# Altium integrated library Analog Devices Operational Amplifiers.IntLib: 2102 symbols (part 25 of 70)
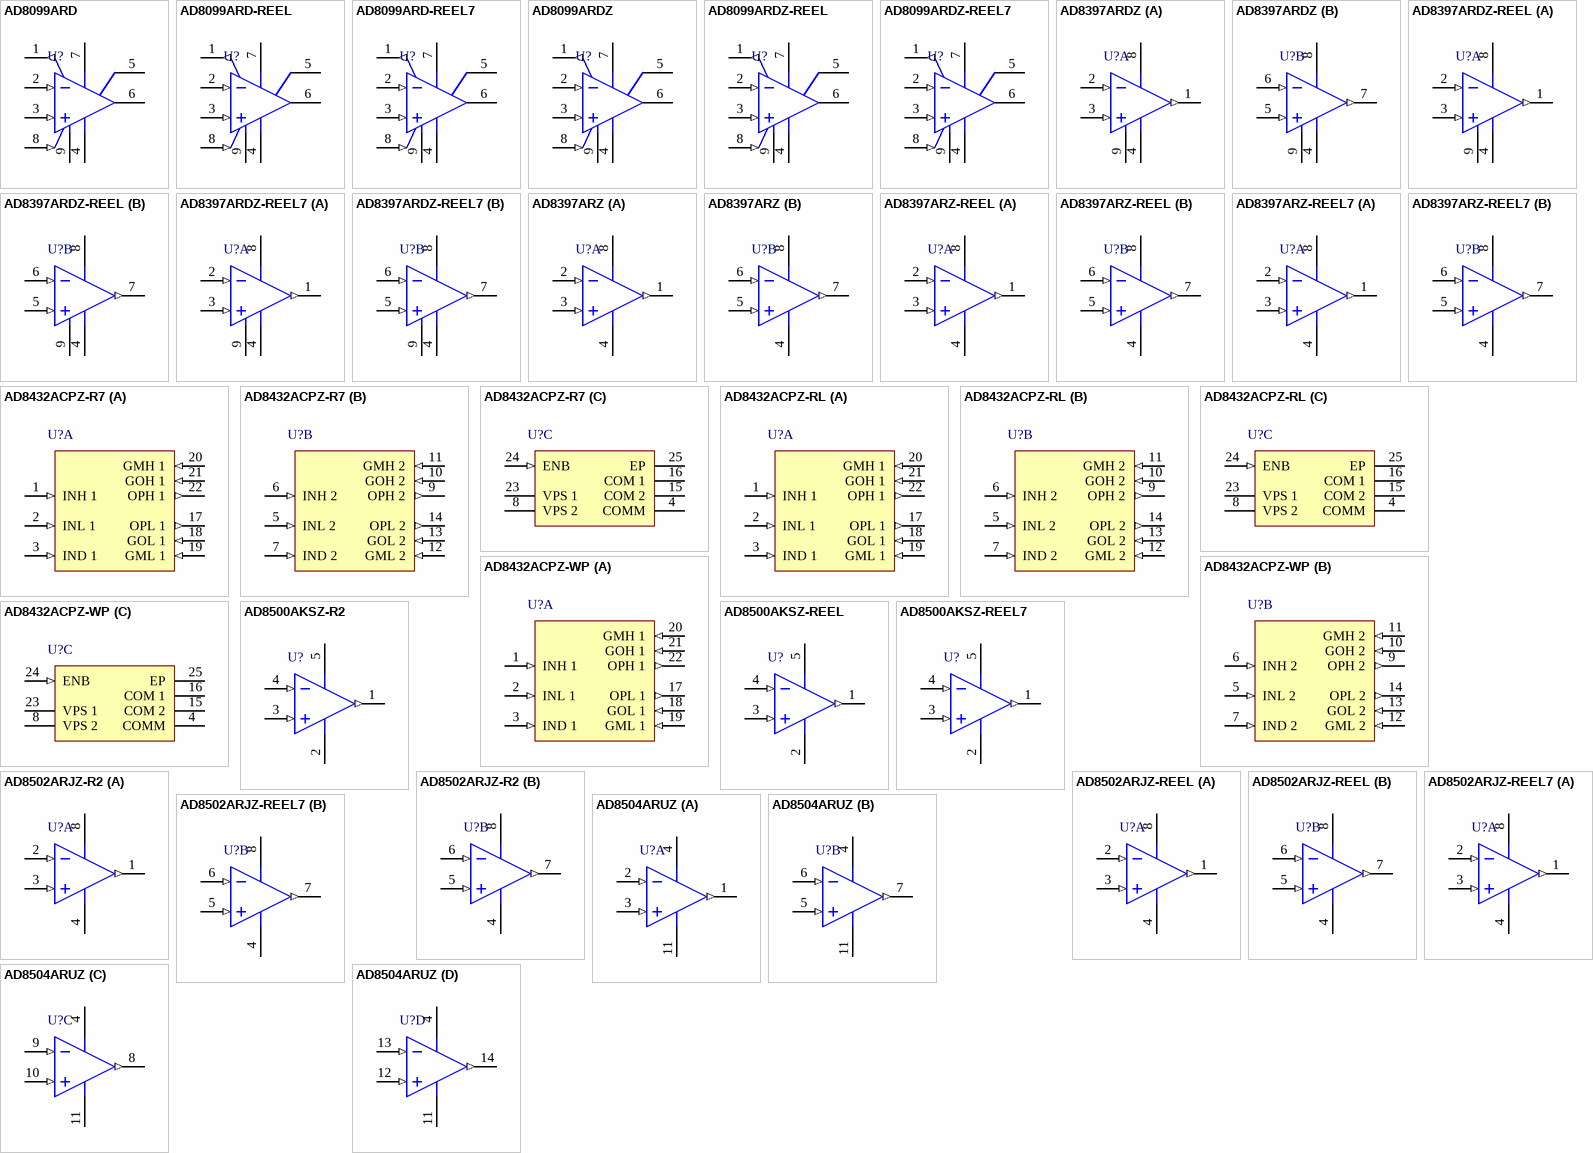
[diagram p138: symbols AD8099ARD to AD8504ARUZ]

## AD8099ARD-REEL7
designator U?
Single Channel Ultra Low Noise Operational Amplifier, 500 MHz BW, 1.35 KV/us SR, Industrial, 8-pin SOIC (RD-8-1), Reel; Generic Part Number: AD8099; Manufacturer: Analog Devices; PartNumber: AD8099ARD-REEL7; Amplifiers Per Package: 1; Input Bias Current: 3uA; Input Offset Voltage: 100uV; Iq/Amp: 16mA; Small Signal Bandwidth: 500MHz; V Span Max: 12V; V Span Min: 5V; DatasheetVersion: Rev. B; PackageVersion: 060506-A; PackageReference: RD-8-1; PackageDescription: 8-Pin Standard Small Outline Package, Body 4.9 x 3.9 mm, Pitch 1.27 mm; Supplier 1: Digi-Key; Supplier Part Number 1: AD8099ARD-REEL7-ND; Slew Rate: 1.35KV/us; Mounting Technology: Surface Mount; Code_JEDEC: MS-012-AA; ComponentLink1Description: Manufacturer URL; ComponentLink1URL: http://www.analog.com/en/index.html; ComponentLink2Description: Datasheet; ComponentLink2URL: http://www.analog.com/static/imported-files/data_sheets/AD8099.pdf; ComponentLink3Description: Package Specification; ComponentLink3URL: http://www.analog.com/static/imported-files/packages/PKG_PDF/SOIC_ED(RD)/RD_8_1.pdf
footprint ADI-RD-8-1_N (SOIC, 8-Leads, Body 4.9x3.9mm, Pitch 1.27mm, Thermal Pad 2.29x2.29mm, IPC Medium Density)
footprint ADI-RD-8-1_L (SOIC, 8-Leads, Body 4.9x3.9mm, Pitch 1.27mm, Thermal Pad 2.29x2.29mm, IPC High Density)
footprint ADI-RD-8-1_M (SOIC, 8-Leads, Body 4.9x3.9mm, Pitch 1.27mm, Thermal Pad 2.29x2.29mm, IPC Low Density)
pins: 1 FEEDBACK (out), 2 -IN (in), 3 +IN (in), 4 -VS (power), 5 CC, 6 VOUT (hiz), 7 +VS (power), 8 ~{DISABLE} (in), 9 EP

## AD8099ARDZ
designator U?
Single Channel Ultra Low Noise Operational Amplifier, 500 MHz BW, 1.35 KV/us SR, Industrial, 8-pin SOIC (RD-8-1), Tube; Generic Part Number: AD8099; Manufacturer: Analog Devices; PartNumber: AD8099ARDZ; Amplifiers Per Package: 1; Input Bias Current: 3uA; Input Offset Voltage: 100uV; Iq/Amp: 16mA; Small Signal Bandwidth: 500MHz; V Span Max: 12V; V Span Min: 5V; DatasheetVersion: Rev. B; PackageVersion: 060506-A; PackageReference: RD-8-1; PackageDescription: 8-Pin Standard Small Outline Package, Body 4.9 x 3.9 mm, Pitch 1.27 mm; Supplier 1: Digi-Key; Supplier Part Number 1: AD8099ARDZ-ND; Supplier 2: Farnell; Supplier Part Number 2: 8397848; Supplier 3: Newark; Supplier Part Number 3: 19M0932; Slew Rate: 1.35KV/us; Mounting Technology: Surface Mount; Code_JEDEC: MS-012-AA; ComponentLink1Description: Manufacturer URL; ComponentLink1URL: http://www.analog.com/en/index.html; ComponentLink2Description: Datasheet; ComponentLink2URL: http://www.analog.com/static/imported-files/data_sheets/AD8099.pdf; ComponentLink3Description: Package Specification; ComponentLink3URL: http://www.analog.com/static/imported-files/packages/PKG_PDF/SOIC_ED(RD)/RD_8_1.pdf
footprint ADI-RD-8-1_N (SOIC, 8-Leads, Body 4.9x3.9mm, Pitch 1.27mm, Thermal Pad 2.29x2.29mm, IPC Medium Density)
footprint ADI-RD-8-1_L (SOIC, 8-Leads, Body 4.9x3.9mm, Pitch 1.27mm, Thermal Pad 2.29x2.29mm, IPC High Density)
footprint ADI-RD-8-1_M (SOIC, 8-Leads, Body 4.9x3.9mm, Pitch 1.27mm, Thermal Pad 2.29x2.29mm, IPC Low Density)
pins: 1 FEEDBACK (out), 2 -IN (in), 3 +IN (in), 4 -VS (power), 5 CC, 6 VOUT (hiz), 7 +VS (power), 8 ~{DISABLE} (in), 9 EP

## AD8099ARDZ-REEL
designator U?
Single Channel Ultra Low Noise Operational Amplifier, 500 MHz BW, 1.35 KV/us SR, Industrial, 8-pin SOIC (RD-8-1), Reel; Generic Part Number: AD8099; Manufacturer: Analog Devices; PartNumber: AD8099ARDZ-REEL; Amplifiers Per Package: 1; Input Bias Current: 3uA; Input Offset Voltage: 100uV; Iq/Amp: 16mA; Small Signal Bandwidth: 500MHz; V Span Max: 12V; V Span Min: 5V; DatasheetVersion: Rev. B; PackageVersion: 060506-A; PackageReference: RD-8-1; PackageDescription: 8-Pin Standard Small Outline Package, Body 4.9 x 3.9 mm, Pitch 1.27 mm; Supplier 1: Digi-Key; Supplier Part Number 1: AD8099ARDZ-REEL-ND; Supplier 2: Newark; Supplier Part Number 2: 59K6363; Slew Rate: 1.35KV/us; Mounting Technology: Surface Mount; Code_JEDEC: MS-012-AA; ComponentLink1Description: Manufacturer URL; ComponentLink1URL: http://www.analog.com/en/index.html; ComponentLink2Description: Datasheet; ComponentLink2URL: http://www.analog.com/static/imported-files/data_sheets/AD8099.pdf; ComponentLink3Description: Package Specification; ComponentLink3URL: http://www.analog.com/static/imported-files/packages/PKG_PDF/SOIC_ED(RD)/RD_8_1.pdf
footprint ADI-RD-8-1_N (SOIC, 8-Leads, Body 4.9x3.9mm, Pitch 1.27mm, Thermal Pad 2.29x2.29mm, IPC Medium Density)
footprint ADI-RD-8-1_L (SOIC, 8-Leads, Body 4.9x3.9mm, Pitch 1.27mm, Thermal Pad 2.29x2.29mm, IPC High Density)
footprint ADI-RD-8-1_M (SOIC, 8-Leads, Body 4.9x3.9mm, Pitch 1.27mm, Thermal Pad 2.29x2.29mm, IPC Low Density)
pins: 1 FEEDBACK (out), 2 -IN (in), 3 +IN (in), 4 -VS (power), 5 CC, 6 VOUT (hiz), 7 +VS (power), 8 ~{DISABLE} (in), 9 EP

## AD8099ARDZ-REEL7
designator U?
Single Channel Ultra Low Noise Operational Amplifier, 500 MHz BW, 1.35 KV/us SR, Industrial, 8-pin SOIC (RD-8-1), Reel; Generic Part Number: AD8099; Manufacturer: Analog Devices; PartNumber: AD8099ARDZ-REEL7; Amplifiers Per Package: 1; Input Bias Current: 3uA; Input Offset Voltage: 100uV; Iq/Amp: 16mA; Small Signal Bandwidth: 500MHz; V Span Max: 12V; V Span Min: 5V; DatasheetVersion: Rev. B; PackageVersion: 060506-A; PackageReference: RD-8-1; PackageDescription: 8-Pin Standard Small Outline Package, Body 4.9 x 3.9 mm, Pitch 1.27 mm; Supplier 1: Digi-Key; Supplier Part Number 1: AD8099ARDZ-REEL7TR-ND; Supplier 2: Digi-Key; Supplier Part Number 2: AD8099ARDZ-REEL7CT-ND; Supplier 3: Digi-Key; Supplier Part Number 3: AD8099ARDZ-REEL7DKR-ND; Supplier 4: Newark; Supplier Part Number 4: 59K6364; Slew Rate: 1.35KV/us; Mounting Technology: Surface Mount; Code_JEDEC: MS-012-AA; ComponentLink1Description: Manufacturer URL; ComponentLink1URL: http://www.analog.com/en/index.html; ComponentLink2Description: Datasheet; ComponentLink2URL: http://www.analog.com/static/imported-files/data_sheets/AD8099.pdf; ComponentLink3Description: Package Specification; ComponentLink3URL: http://www.analog.com/static/imported-files/packages/PKG_PDF/SOIC_ED(RD)/RD_8_1.pdf
footprint ADI-RD-8-1_N (SOIC, 8-Leads, Body 4.9x3.9mm, Pitch 1.27mm, Thermal Pad 2.29x2.29mm, IPC Medium Density)
footprint ADI-RD-8-1_L (SOIC, 8-Leads, Body 4.9x3.9mm, Pitch 1.27mm, Thermal Pad 2.29x2.29mm, IPC High Density)
footprint ADI-RD-8-1_M (SOIC, 8-Leads, Body 4.9x3.9mm, Pitch 1.27mm, Thermal Pad 2.29x2.29mm, IPC Low Density)
pins: 1 FEEDBACK (out), 2 -IN (in), 3 +IN (in), 4 -VS (power), 5 CC, 6 VOUT (hiz), 7 +VS (power), 8 ~{DISABLE} (in), 9 EP

## AD8397ARDZ
designator U?
Double Channel Low Noise Operational Amplifier, 69 MHz BW, 53 V/us SR, Industrial, 8-pin SOIC (RD-8-2), Tube; Generic Part Number: AD8397; Manufacturer: Analog Devices; PartNumber: AD8397ARDZ; Amplifiers Per Package: 2; Input Bias Current: 200nA; Input Offset Voltage: 1mV; Iq/Amp: 15mA; Slew Rate: 53V/us; Small Signal Bandwidth: 69MHz; V Span Max: 24V; V Span Min: 3V; DatasheetVersion: Rev. A; PackageReference: RD-8-2; PackageDescription: 8-Pin Standard Small Outline Package, Body 4.9 x 3.9 mm, Pitch 1.27 mm; Supplier 1: Digi-Key; Supplier Part Number 1: AD8397ARDZ-ND; Supplier 2: Farnell; Supplier Part Number 2: 1078283; Supplier 3: Newark; Supplier Part Number 3: 59K6702; Mounting Technology: Surface Mount; Code_JEDEC: MS-012-AA; ComponentLink1Description: Manufacturer URL; ComponentLink1URL: http://www.analog.com/en/index.html; ComponentLink2Description: Datasheet; ComponentLink2URL: http://www.analog.com/static/imported-files/data_sheets/AD8397.pdf; ComponentLink3Description: Package Specification; ComponentLink3URL: http://www.analog.com/static/imported-files/packages/62062404671038RD_8_2.pdf
footprint ADI-RD-8-2_N (SOIC, 8-Leads, Body 4.9x3.9mm, Pitch 1.27mm, Thermal Pad 3.098x2.41mm, IPC Medium Density)
footprint ADI-RD-8-2_L (SOIC, 8-Leads, Body 4.9x3.9mm, Pitch 1.27mm, Thermal Pad 3.098x2.41mm, IPC High Density)
footprint ADI-RD-8-2_M (SOIC, 8-Leads, Body 4.9x3.9mm, Pitch 1.27mm, Thermal Pad 3.098x2.41mm, IPC Low Density)
pins on every part: 4 -VS (power), 8 +VS (power), 9 EP
part A pins: 1 OUT 1 (out), 2 -IN 1 (in), 3 +IN 1 (in)
part B pins: 5 +IN 2 (in), 6 -IN 2 (in), 7 OUT 2 (out)

## AD8397ARDZ-REEL
designator U?
Double Channel Low Noise Operational Amplifier, 69 MHz BW, 53 V/us SR, Industrial, 8-pin SOIC (RD-8-2), Reel; Generic Part Number: AD8397; Manufacturer: Analog Devices; PartNumber: AD8397ARDZ-REEL; Amplifiers Per Package: 2; Input Bias Current: 200nA; Input Offset Voltage: 1mV; Iq/Amp: 15mA; Slew Rate: 53V/us; Small Signal Bandwidth: 69MHz; V Span Max: 24V; V Span Min: 3V; DatasheetVersion: Rev. A; PackageReference: RD-8-2; PackageDescription: 8-Pin Standard Small Outline Package, Body 4.9 x 3.9 mm, Pitch 1.27 mm; Supplier 1: Digi-Key; Supplier Part Number 1: AD8397ARDZ-REEL-ND; Supplier 2: Newark; Supplier Part Number 2: 59K6703; Mounting Technology: Surface Mount; Code_JEDEC: MS-012-AA; ComponentLink1Description: Manufacturer URL; ComponentLink1URL: http://www.analog.com/en/index.html; ComponentLink2Description: Datasheet; ComponentLink2URL: http://www.analog.com/static/imported-files/data_sheets/AD8397.pdf; ComponentLink3Description: Package Specification; ComponentLink3URL: http://www.analog.com/static/imported-files/packages/62062404671038RD_8_2.pdf
footprint ADI-RD-8-2_N (SOIC, 8-Leads, Body 4.9x3.9mm, Pitch 1.27mm, Thermal Pad 3.098x2.41mm, IPC Medium Density)
footprint ADI-RD-8-2_L (SOIC, 8-Leads, Body 4.9x3.9mm, Pitch 1.27mm, Thermal Pad 3.098x2.41mm, IPC High Density)
footprint ADI-RD-8-2_M (SOIC, 8-Leads, Body 4.9x3.9mm, Pitch 1.27mm, Thermal Pad 3.098x2.41mm, IPC Low Density)
pins on every part: 4 -VS (power), 8 +VS (power), 9 EP
part A pins: 1 OUT 1 (out), 2 -IN 1 (in), 3 +IN 1 (in)
part B pins: 5 +IN 2 (in), 6 -IN 2 (in), 7 OUT 2 (out)

## AD8397ARDZ-REEL7
designator U?
Double Channel Low Noise Operational Amplifier, 69 MHz BW, 53 V/us SR, Industrial, 8-pin SOIC (RD-8-2), Reel; Generic Part Number: AD8397; Manufacturer: Analog Devices; PartNumber: AD8397ARDZ-REEL7; Amplifiers Per Package: 2; Input Bias Current: 200nA; Input Offset Voltage: 1mV; Iq/Amp: 15mA; Slew Rate: 53V/us; Small Signal Bandwidth: 69MHz; V Span Max: 24V; V Span Min: 3V; DatasheetVersion: Rev. A; PackageReference: RD-8-2; PackageDescription: 8-Pin Standard Small Outline Package, Body 4.9 x 3.9 mm, Pitch 1.27 mm; Supplier 1: Digi-Key; Supplier Part Number 1: AD8397ARDZ-REEL7TR-ND; Supplier 2: Digi-Key; Supplier Part Number 2: AD8397ARDZ-REEL7CT-ND; Supplier 3: Digi-Key; Supplier Part Number 3: AD8397ARDZ-REEL7DKR-ND; Mounting Technology: Surface Mount; Code_JEDEC: MS-012-AA; ComponentLink1Description: Manufacturer URL; ComponentLink1URL: http://www.analog.com/en/index.html; ComponentLink2Description: Datasheet; ComponentLink2URL: http://www.analog.com/static/imported-files/data_sheets/AD8397.pdf; ComponentLink3Description: Package Specification; ComponentLink3URL: http://www.analog.com/static/imported-files/packages/62062404671038RD_8_2.pdf
footprint ADI-RD-8-2_N (SOIC, 8-Leads, Body 4.9x3.9mm, Pitch 1.27mm, Thermal Pad 3.098x2.41mm, IPC Medium Density)
footprint ADI-RD-8-2_L (SOIC, 8-Leads, Body 4.9x3.9mm, Pitch 1.27mm, Thermal Pad 3.098x2.41mm, IPC High Density)
footprint ADI-RD-8-2_M (SOIC, 8-Leads, Body 4.9x3.9mm, Pitch 1.27mm, Thermal Pad 3.098x2.41mm, IPC Low Density)
pins on every part: 4 -VS (power), 8 +VS (power), 9 EP
part A pins: 1 OUT 1 (out), 2 -IN 1 (in), 3 +IN 1 (in)
part B pins: 5 +IN 2 (in), 6 -IN 2 (in), 7 OUT 2 (out)

## AD8397ARZ
designator U?
Double Channel Low Noise Operational Amplifier, 69 MHz BW, 53 V/us SR, Industrial, 8-pin SOIC (R-8), Tube; Generic Part Number: AD8397; Manufacturer: Analog Devices; PartNumber: AD8397ARZ; Amplifiers Per Package: 2; Input Bias Current: 200nA; Input Offset Voltage: 1mV; Iq/Amp: 15mA; Slew Rate: 53V/us; Small Signal Bandwidth: 69MHz; V Span Max: 24V; V Span Min: 3V; DatasheetVersion: Rev. A; PackageVersion: 060506-A; PackageReference: R-8; PackageDescription: 8-Pin Standard Small Outline Package, Body 3.9 x 4.9 mm, Pitch 1.27 mm; Supplier 1: Digi-Key; Supplier Part Number 1: AD8397ARZ-ND; Supplier 2: Farnell; Supplier Part Number 2: 1078284; Supplier 3: Newark; Supplier Part Number 3: 19M1201; Mounting Technology: Surface Mount; Code_JEDEC: MS-012-AA; ComponentLink1Description: Manufacturer URL; ComponentLink1URL: http://www.analog.com/en/index.html; ComponentLink2Description: Datasheet; ComponentLink2URL: http://www.analog.com/static/imported-files/data_sheets/AD8397.pdf; ComponentLink3Description: Package Specification; ComponentLink3URL: http://www.analog.com/static/imported-files/packages/PKG_PDF/SOIC_Narrow%20(R)/R_8.pdf
footprint ADI-R-8_N (SOIC, 8-Leads, Body 4.9x3.9mm, Pitch 1.27mm, IPC Medium Density)
footprint ADI-R-8_L (SOIC, 8-Leads, Body 4.9x3.9mm, Pitch 1.27mm, IPC High Density)
footprint ADI-R-8_M (SOIC, 8-Leads, Body 4.9x3.9mm, Pitch 1.27mm, IPC Low Density)
pins on every part: 4 -VS (power), 8 +VS (power)
part A pins: 1 OUT 1 (out), 2 -IN 1 (in), 3 +IN 1 (in)
part B pins: 5 +IN 2 (in), 6 -IN 2 (in), 7 OUT 2 (out)

## AD8397ARZ-REEL
designator U?
Double Channel Low Noise Operational Amplifier, 69 MHz BW, 53 V/us SR, Industrial, 8-pin SOIC (R-8), Reel; Generic Part Number: AD8397; Manufacturer: Analog Devices; PartNumber: AD8397ARZ-REEL; Amplifiers Per Package: 2; Input Bias Current: 200nA; Input Offset Voltage: 1mV; Iq/Amp: 15mA; Slew Rate: 53V/us; Small Signal Bandwidth: 69MHz; V Span Max: 24V; V Span Min: 3V; DatasheetVersion: Rev. A; PackageVersion: 060506-A; PackageReference: R-8; PackageDescription: 8-Pin Standard Small Outline Package, Body 3.9 x 4.9 mm, Pitch 1.27 mm; Supplier 1: Digi-Key; Supplier Part Number 1: AD8397ARZ-REEL-ND; Mounting Technology: Surface Mount; Code_JEDEC: MS-012-AA; ComponentLink1Description: Manufacturer URL; ComponentLink1URL: http://www.analog.com/en/index.html; ComponentLink2Description: Datasheet; ComponentLink2URL: http://www.analog.com/static/imported-files/data_sheets/AD8397.pdf; ComponentLink3Description: Package Specification; ComponentLink3URL: http://www.analog.com/static/imported-files/packages/PKG_PDF/SOIC_Narrow%20(R)/R_8.pdf
footprint ADI-R-8_N (SOIC, 8-Leads, Body 4.9x3.9mm, Pitch 1.27mm, IPC Medium Density)
footprint ADI-R-8_L (SOIC, 8-Leads, Body 4.9x3.9mm, Pitch 1.27mm, IPC High Density)
footprint ADI-R-8_M (SOIC, 8-Leads, Body 4.9x3.9mm, Pitch 1.27mm, IPC Low Density)
pins on every part: 4 -VS (power), 8 +VS (power)
part A pins: 1 OUT 1 (out), 2 -IN 1 (in), 3 +IN 1 (in)
part B pins: 5 +IN 2 (in), 6 -IN 2 (in), 7 OUT 2 (out)

## AD8397ARZ-REEL7
designator U?
Double Channel Low Noise Operational Amplifier, 69 MHz BW, 53 V/us SR, Industrial, 8-pin SOIC (R-8), Reel; Generic Part Number: AD8397; Manufacturer: Analog Devices; PartNumber: AD8397ARZ-REEL7; Amplifiers Per Package: 2; Input Bias Current: 200nA; Input Offset Voltage: 1mV; Iq/Amp: 15mA; Slew Rate: 53V/us; Small Signal Bandwidth: 69MHz; V Span Max: 24V; V Span Min: 3V; DatasheetVersion: Rev. A; PackageVersion: 060506-A; PackageReference: R-8; PackageDescription: 8-Pin Standard Small Outline Package, Body 3.9 x 4.9 mm, Pitch 1.27 mm; Supplier 1: Digi-Key; Supplier Part Number 1: AD8397ARZ-REEL7-ND; Supplier 2: Newark; Supplier Part Number 2: 59K6707; Mounting Technology: Surface Mount; Code_JEDEC: MS-012-AA; ComponentLink1Description: Manufacturer URL; ComponentLink1URL: http://www.analog.com/en/index.html; ComponentLink2Description: Datasheet; ComponentLink2URL: http://www.analog.com/static/imported-files/data_sheets/AD8397.pdf; ComponentLink3Description: Package Specification; ComponentLink3URL: http://www.analog.com/static/imported-files/packages/PKG_PDF/SOIC_Narrow%20(R)/R_8.pdf
footprint ADI-R-8_N (SOIC, 8-Leads, Body 4.9x3.9mm, Pitch 1.27mm, IPC Medium Density)
footprint ADI-R-8_L (SOIC, 8-Leads, Body 4.9x3.9mm, Pitch 1.27mm, IPC High Density)
footprint ADI-R-8_M (SOIC, 8-Leads, Body 4.9x3.9mm, Pitch 1.27mm, IPC Low Density)
pins on every part: 4 -VS (power), 8 +VS (power)
part A pins: 1 OUT 1 (out), 2 -IN 1 (in), 3 +IN 1 (in)
part B pins: 5 +IN 2 (in), 6 -IN 2 (in), 7 OUT 2 (out)

## AD8432ACPZ-R7
designator U?
Double Channel Low Power Operational Amplifier, 200 MHz BW, 170 V/us SR, Industrial, 24-pin QFN (CP-24-7), Reel; Generic Part Number: AD8432; Manufacturer: Analog Devices; PartNumber: AD8432ACPZ-R7; Amplifiers Per Package: 2; Input Offset Voltage: 1mV; Iq/Amp: 12mA; Small Signal Bandwidth: 200MHz; V Span Max: 5.5V; V Span Min: 4.5V; DatasheetVersion: Rev. C; PackageVersion: 112108-A; PackageReference: CP-24-7; PackageDescription: 24-Pin Lead Frame Chip Scale Package, Body 4 x 4 mm, Pitch 0.5 mm; Supplier 1: Digi-Key; Supplier Part Number 1: AD8432ACPZ-R7-ND; Supplier 2: Newark; Supplier Part Number 2: 52R8167; Packing: Reel; Slew Rate: 170V/us; Mounting Technology: Surface Mount; Code_JEDEC: MO-220-WGGD; ComponentLink1Description: Manufacturer URL; ComponentLink1URL: http://www.analog.com/en/index.html; ComponentLink2Description: Datasheet; ComponentLink2URL: http://www.analog.com/static/imported-files/data_sheets/AD8432.pdf; ComponentLink3Description: Package Specification; ComponentLink3URL: http://www.analog.com/static/imported-files/packages/PKG_PDF/LFCSP(CP)/CP_24_7.pdf
footprint ADI-CP-24-7_N (QFN, 24-Leads, Body 4x4mm, Pitch 0.5mm, Thermal Pad 2.55x2.55mm, IPC Medium Density)
footprint ADI-CP-24-7_L (QFN, 24-Leads, Body 4x4mm, Pitch 0.5mm, Thermal Pad 2.55x2.55mm, IPC High Density)
footprint ADI-CP-24-7_M (QFN, 24-Leads, Body 4x4mm, Pitch 0.5mm, Thermal Pad 2.55x2.55mm, IPC Low Density)
part A pins: 1 INH 1 (in) "LNA1 Noninverting Input.", 2 INL 1 (in) "LNA1 Inverting Input (AC-Coupled to Ground).", 3 IND 1 (in) "Integrated Input Clamping Back-to-Back Diodes.", 17 OPL 1 (out) "Inverting Output of LNA1.", 18 GOL 1 (in) "Gain Setting Pin for LNA1.", 19 GML 1 (in) "Gain Setting Pin for LNA1.", 20 GMH 1 (in) "Gain Setting Pin for LNA1.", 21 GOH 1 (in) "Gain Setting Pin for LNA1.", 22 OPH 1 (out) "Noninverting Output of LNA1."
part B pins: 5 INL 2 (in) "LNA2 Inverting Input (AC-Coupled to Ground).", 6 INH 2 (in) "LNA2 Noninverting Input.", 7 IND 2 (in) "Integrated Input Clamping Back-to-Back Diodes.", 9 OPH 2 (out) "Noninverting Output of LNA2.", 10 GOH 2 (in) "Gain Setting Pin for LNA2.", 11 GMH 2 (in) "Gain Setting Pin for LNA2.", 12 GML 2 (in) "Gain Setting Pin for LNA2.", 13 GOL 2 (in) "Gain Setting Pin for LNA2.", 14 OPL 2 (out) "Inverting Output of LNA2."
part C pins: 4 COMM (power) "Input Ground.", 8 VPS 2 (power) "5 V Supply.", 15 COM 2 (power) "LNA2 Output Ground.", 16 COM 1 (power) "LNA1 Output Ground.", 23 VPS 1 (power) "5 V Supply.", 24 ENB (in) "Enable.", 25 EP (power) "Exposed pad must be connected to ground."

## AD8432ACPZ-RL
designator U?
Double Channel Low Power Operational Amplifier, 200 MHz BW, 170 V/us SR, Industrial, 24-pin QFN (CP-24-7), Reel; Generic Part Number: AD8432; Manufacturer: Analog Devices; PartNumber: AD8432ACPZ-RL; Amplifiers Per Package: 2; Input Offset Voltage: 1mV; Iq/Amp: 12mA; Small Signal Bandwidth: 200MHz; V Span Max: 5.5V; V Span Min: 4.5V; DatasheetVersion: Rev. C; PackageVersion: 112108-A; PackageReference: CP-24-7; PackageDescription: 24-Pin Lead Frame Chip Scale Package, Body 4 x 4 mm, Pitch 0.5 mm; Supplier 1: Digi-Key; Supplier Part Number 1: AD8432ACPZ-RL-ND; Supplier 2: Newark; Supplier Part Number 2: 52R8166; Packing: Reel; Slew Rate: 170V/us; Mounting Technology: Surface Mount; Code_JEDEC: MO-220-WGGD; ComponentLink1Description: Manufacturer URL; ComponentLink1URL: http://www.analog.com/en/index.html; ComponentLink2Description: Datasheet; ComponentLink2URL: http://www.analog.com/static/imported-files/data_sheets/AD8432.pdf; ComponentLink3Description: Package Specification; ComponentLink3URL: http://www.analog.com/static/imported-files/packages/PKG_PDF/LFCSP(CP)/CP_24_7.pdf
footprint ADI-CP-24-7_N (QFN, 24-Leads, Body 4x4mm, Pitch 0.5mm, Thermal Pad 2.55x2.55mm, IPC Medium Density)
footprint ADI-CP-24-7_L (QFN, 24-Leads, Body 4x4mm, Pitch 0.5mm, Thermal Pad 2.55x2.55mm, IPC High Density)
footprint ADI-CP-24-7_M (QFN, 24-Leads, Body 4x4mm, Pitch 0.5mm, Thermal Pad 2.55x2.55mm, IPC Low Density)
part A pins: 1 INH 1 (in) "LNA1 Noninverting Input.", 2 INL 1 (in) "LNA1 Inverting Input (AC-Coupled to Ground).", 3 IND 1 (in) "Integrated Input Clamping Back-to-Back Diodes.", 17 OPL 1 (out) "Inverting Output of LNA1.", 18 GOL 1 (in) "Gain Setting Pin for LNA1.", 19 GML 1 (in) "Gain Setting Pin for LNA1.", 20 GMH 1 (in) "Gain Setting Pin for LNA1.", 21 GOH 1 (in) "Gain Setting Pin for LNA1.", 22 OPH 1 (out) "Noninverting Output of LNA1."
part B pins: 5 INL 2 (in) "LNA2 Inverting Input (AC-Coupled to Ground).", 6 INH 2 (in) "LNA2 Noninverting Input.", 7 IND 2 (in) "Integrated Input Clamping Back-to-Back Diodes.", 9 OPH 2 (out) "Noninverting Output of LNA2.", 10 GOH 2 (in) "Gain Setting Pin for LNA2.", 11 GMH 2 (in) "Gain Setting Pin for LNA2.", 12 GML 2 (in) "Gain Setting Pin for LNA2.", 13 GOL 2 (in) "Gain Setting Pin for LNA2.", 14 OPL 2 (out) "Inverting Output of LNA2."
part C pins: 4 COMM (power) "Input Ground.", 8 VPS 2 (power) "5 V Supply.", 15 COM 2 (power) "LNA2 Output Ground.", 16 COM 1 (power) "LNA1 Output Ground.", 23 VPS 1 (power) "5 V Supply.", 24 ENB (in) "Enable.", 25 EP (power) "Exposed pad must be connected to ground."

## AD8432ACPZ-WP
designator U?
Double Channel Low Power Operational Amplifier, 200 MHz BW, 170 V/us SR, Industrial, 24-pin QFN (CP-24-7), Tray; Generic Part Number: AD8432; Manufacturer: Analog Devices; PartNumber: AD8432ACPZ-WP; Amplifiers Per Package: 2; Input Offset Voltage: 1mV; Iq/Amp: 12mA; Small Signal Bandwidth: 200MHz; V Span Max: 5.5V; V Span Min: 4.5V; DatasheetVersion: Rev. C; PackageVersion: 112108-A; PackageReference: CP-24-7; PackageDescription: 24-Pin Lead Frame Chip Scale Package, Body 4 x 4 mm, Pitch 0.5 mm; Supplier 1: Digi-Key; Supplier Part Number 1: AD8432ACPZ-WP-ND; Supplier 2: Farnell; Supplier Part Number 2: 1827462; Supplier 3: Newark; Supplier Part Number 3: 52R8168; Packing: Tray; Slew Rate: 170V/us; Mounting Technology: Surface Mount; Code_JEDEC: MO-220-WGGD; ComponentLink1Description: Manufacturer URL; ComponentLink1URL: http://www.analog.com/en/index.html; ComponentLink2Description: Datasheet; ComponentLink2URL: http://www.analog.com/static/imported-files/data_sheets/AD8432.pdf; ComponentLink3Description: Package Specification; ComponentLink3URL: http://www.analog.com/static/imported-files/packages/PKG_PDF/LFCSP(CP)/CP_24_7.pdf
footprint ADI-CP-24-7_N (QFN, 24-Leads, Body 4x4mm, Pitch 0.5mm, Thermal Pad 2.55x2.55mm, IPC Medium Density)
footprint ADI-CP-24-7_L (QFN, 24-Leads, Body 4x4mm, Pitch 0.5mm, Thermal Pad 2.55x2.55mm, IPC High Density)
footprint ADI-CP-24-7_M (QFN, 24-Leads, Body 4x4mm, Pitch 0.5mm, Thermal Pad 2.55x2.55mm, IPC Low Density)
part A pins: 1 INH 1 (in) "LNA1 Noninverting Input.", 2 INL 1 (in) "LNA1 Inverting Input (AC-Coupled to Ground).", 3 IND 1 (in) "Integrated Input Clamping Back-to-Back Diodes.", 17 OPL 1 (out) "Inverting Output of LNA1.", 18 GOL 1 (in) "Gain Setting Pin for LNA1.", 19 GML 1 (in) "Gain Setting Pin for LNA1.", 20 GMH 1 (in) "Gain Setting Pin for LNA1.", 21 GOH 1 (in) "Gain Setting Pin for LNA1.", 22 OPH 1 (out) "Noninverting Output of LNA1."
part B pins: 5 INL 2 (in) "LNA2 Inverting Input (AC-Coupled to Ground).", 6 INH 2 (in) "LNA2 Noninverting Input.", 7 IND 2 (in) "Integrated Input Clamping Back-to-Back Diodes.", 9 OPH 2 (out) "Noninverting Output of LNA2.", 10 GOH 2 (in) "Gain Setting Pin for LNA2.", 11 GMH 2 (in) "Gain Setting Pin for LNA2.", 12 GML 2 (in) "Gain Setting Pin for LNA2.", 13 GOL 2 (in) "Gain Setting Pin for LNA2.", 14 OPL 2 (out) "Inverting Output of LNA2."
part C pins: 4 COMM (power) "Input Ground.", 8 VPS 2 (power) "5 V Supply.", 15 COM 2 (power) "LNA2 Output Ground.", 16 COM 1 (power) "LNA1 Output Ground.", 23 VPS 1 (power) "5 V Supply.", 24 ENB (in) "Enable.", 25 EP (power) "Exposed pad must be connected to ground."

## AD8500AKSZ-R2
designator U?
Single Channel RRIO Operational Amplifier, 7 KHz BW, 4 mV/us SR, Industrial, 5-pin SOT23 (KS-5), Reel; Generic Part Number: AD8500; Manufacturer: Analog Devices; PartNumber: AD8500AKSZ-R2; Amplifiers Per Package: 1; Input Bias Current: 1pA; Input Offset Voltage: 235uV; Iq/Amp: 750nA; Slew Rate: 4mV/us; Small Signal Bandwidth: 7KHz; V Span Max: 5.5V; V Span Min: 1.8V; DatasheetVersion: Rev. B; PackageVersion: 072809-A; PackageReference: KS-5; PackageDescription: 5-Pin Thin Shrink Small Outline Transistor Package, Body 2 x 1.25 mm, Pitch 0.65 mm; Supplier 1: Digi-Key; Supplier Part Number 1: AD8500AKSZ-R2-ND; Supplier 2: Farnell; Supplier Part Number 2: 1838864; Supplier 3: Newark; Supplier Part Number 3: 12M9104; Mounting Technology: Surface Mount; Code_JEDEC: MO-203-AA; ComponentLink1Description: Manufacturer URL; ComponentLink1URL: http://www.analog.com/en/index.html; ComponentLink2Description: Datasheet; ComponentLink2URL: http://www.analog.com/static/imported-files/data_sheets/AD8500.pdf; ComponentLink3Description: Package Specification; ComponentLink3URL: http://www.analog.com/static/imported-files/packages/PKG_PDF/SC70(KS)/KS_5.pdf
footprint ADI-KS-5_N (SOT23, 5-Leads, Body 2x1.25mm, Pitch 0.65mm, IPC Medium Density)
footprint ADI-KS-5_L (SOT23, 5-Leads, Body 2x1.25mm, Pitch 0.65mm, IPC High Density)
footprint ADI-KS-5_M (SOT23, 5-Leads, Body 2x1.25mm, Pitch 0.65mm, IPC Low Density)
pins: 1 OUT A (out), 2 -V (power), 3 +IN (in), 4 -IN (in), 5 +V (power)

## AD8500AKSZ-REEL
designator U?
Single Channel RRIO Operational Amplifier, 7 KHz BW, 4 mV/us SR, Industrial, 5-pin SOT23 (KS-5), Reel; Generic Part Number: AD8500; Manufacturer: Analog Devices; PartNumber: AD8500AKSZ-REEL; Amplifiers Per Package: 1; Input Bias Current: 1pA; Input Offset Voltage: 235uV; Iq/Amp: 750nA; Slew Rate: 4mV/us; Small Signal Bandwidth: 7KHz; V Span Max: 5.5V; V Span Min: 1.8V; DatasheetVersion: Rev. B; PackageVersion: 072809-A; PackageReference: KS-5; PackageDescription: 5-Pin Thin Shrink Small Outline Transistor Package, Body 2 x 1.25 mm, Pitch 0.65 mm; Supplier 1: Digi-Key; Supplier Part Number 1: AD8500AKSZ-REEL-ND; Mounting Technology: Surface Mount; Code_JEDEC: MO-203-AA; ComponentLink1Description: Manufacturer URL; ComponentLink1URL: http://www.analog.com/en/index.html; ComponentLink2Description: Datasheet; ComponentLink2URL: http://www.analog.com/static/imported-files/data_sheets/AD8500.pdf; ComponentLink3Description: Package Specification; ComponentLink3URL: http://www.analog.com/static/imported-files/packages/PKG_PDF/SC70(KS)/KS_5.pdf
footprint ADI-KS-5_N (SOT23, 5-Leads, Body 2x1.25mm, Pitch 0.65mm, IPC Medium Density)
footprint ADI-KS-5_L (SOT23, 5-Leads, Body 2x1.25mm, Pitch 0.65mm, IPC High Density)
footprint ADI-KS-5_M (SOT23, 5-Leads, Body 2x1.25mm, Pitch 0.65mm, IPC Low Density)
pins: 1 OUT A (out), 2 -V (power), 3 +IN (in), 4 -IN (in), 5 +V (power)

## AD8500AKSZ-REEL7
designator U?
Single Channel RRIO Operational Amplifier, 7 KHz BW, 4 mV/us SR, Industrial, 5-pin SOT23 (KS-5), Reel; Generic Part Number: AD8500; Manufacturer: Analog Devices; PartNumber: AD8500AKSZ-REEL7; Amplifiers Per Package: 1; Input Bias Current: 1pA; Input Offset Voltage: 235uV; Iq/Amp: 750nA; Slew Rate: 4mV/us; Small Signal Bandwidth: 7KHz; V Span Max: 5.5V; V Span Min: 1.8V; DatasheetVersion: Rev. B; PackageVersion: 072809-A; PackageReference: KS-5; PackageDescription: 5-Pin Thin Shrink Small Outline Transistor Package, Body 2 x 1.25 mm, Pitch 0.65 mm; Supplier 1: Digi-Key; Supplier Part Number 1: AD8500AKSZ-REEL7TR-ND; Supplier 2: Digi-Key; Supplier Part Number 2: AD8500AKSZ-REEL7CT-ND; Supplier 3: Digi-Key; Supplier Part Number 3: AD8500AKSZ-REEL7DKR-ND; Supplier 4: Newark; Supplier Part Number 4: 12M9103; Mounting Technology: Surface Mount; Code_JEDEC: MO-203-AA; ComponentLink1Description: Manufacturer URL; ComponentLink1URL: http://www.analog.com/en/index.html; ComponentLink2Description: Datasheet; ComponentLink2URL: http://www.analog.com/static/imported-files/data_sheets/AD8500.pdf; ComponentLink3Description: Package Specification; ComponentLink3URL: http://www.analog.com/static/imported-files/packages/PKG_PDF/SC70(KS)/KS_5.pdf
footprint ADI-KS-5_N (SOT23, 5-Leads, Body 2x1.25mm, Pitch 0.65mm, IPC Medium Density)
footprint ADI-KS-5_L (SOT23, 5-Leads, Body 2x1.25mm, Pitch 0.65mm, IPC High Density)
footprint ADI-KS-5_M (SOT23, 5-Leads, Body 2x1.25mm, Pitch 0.65mm, IPC Low Density)
pins: 1 OUT A (out), 2 -V (power), 3 +IN (in), 4 -IN (in), 5 +V (power)

## AD8502ARJZ-R2
designator U?
Double Channel RRIO Operational Amplifier, 7 KHz BW, 4 mV/us SR, Industrial, 8-pin SOT23 (RJ-8), Reel; Generic Part Number: AD8502; Manufacturer: Analog Devices; PartNumber: AD8502ARJZ-R2; Amplifiers Per Package: 2; Input Bias Current: 1pA; Input Offset Voltage: 500uV; Iq/Amp: 1uA; Slew Rate: 4mV/us; Small Signal Bandwidth: 7KHz; V Span Max: 5.5V; V Span Min: 1.8V; DatasheetVersion: Rev. A; PackageVersion: 121608-A; PackageReference: RJ-8; PackageDescription: 8-Pin Small Outline Transistor Package, Body 2.9 x 1.6 mm, Pitch 0.65 mm; Supplier 1: Digi-Key; Supplier Part Number 1: AD8502ARJZ-R2TR-ND; Supplier 2: Digi-Key; Supplier Part Number 2: AD8502ARJZ-R2CT-ND; Supplier 3: Digi-Key; Supplier Part Number 3: AD8502ARJZ-R2DKR-ND; Supplier 4: Farnell; Supplier Part Number 4: 1699561; Supplier 5: Newark; Supplier Part Number 5: 34M5069; Mounting Technology: Surface Mount; Code_JEDEC: MO-178-BA; ComponentLink1Description: Manufacturer URL; ComponentLink1URL: http://www.analog.com/en/index.html; ComponentLink2Description: Datasheet; ComponentLink2URL: http://www.analog.com/static/imported-files/data_sheets/AD8502_8504.pdf; ComponentLink3Description: Package Specification; ComponentLink3URL: http://www.analog.com/static/imported-files/packages/PKG_PDF/SOT-23(RJ)/RJ_8.pdf
footprint ADI-RJ-8_V (SOT23, 8-Leads, Body 2.9x1.6mm, Pitch 0.65mm)
pins on every part: 4 -V (power), 8 +V (power)
part A pins: 1 OUT A (out), 2 -IN A (in), 3 +IN A (in)
part B pins: 5 +IN B (in), 6 -IN B (in), 7 OUT B (out)

## AD8502ARJZ-REEL
designator U?
Double Channel RRIO Operational Amplifier, 7 KHz BW, 4 mV/us SR, Industrial, 8-pin SOT23 (RJ-8), Reel; Generic Part Number: AD8502; Manufacturer: Analog Devices; PartNumber: AD8502ARJZ-REEL; Amplifiers Per Package: 2; Input Bias Current: 1pA; Input Offset Voltage: 500uV; Iq/Amp: 1uA; Slew Rate: 4mV/us; Small Signal Bandwidth: 7KHz; V Span Max: 5.5V; V Span Min: 1.8V; DatasheetVersion: Rev. A; PackageVersion: 121608-A; PackageReference: RJ-8; PackageDescription: 8-Pin Small Outline Transistor Package, Body 2.9 x 1.6 mm, Pitch 0.65 mm; Supplier 1: Digi-Key; Supplier Part Number 1: AD8502ARJZ-REEL-ND; Mounting Technology: Surface Mount; Code_JEDEC: MO-178-BA; ComponentLink1Description: Manufacturer URL; ComponentLink1URL: http://www.analog.com/en/index.html; ComponentLink2Description: Datasheet; ComponentLink2URL: http://www.analog.com/static/imported-files/data_sheets/AD8502_8504.pdf; ComponentLink3Description: Package Specification; ComponentLink3URL: http://www.analog.com/static/imported-files/packages/PKG_PDF/SOT-23(RJ)/RJ_8.pdf
footprint ADI-RJ-8_V (SOT23, 8-Leads, Body 2.9x1.6mm, Pitch 0.65mm)
pins on every part: 4 -V (power), 8 +V (power)
part A pins: 1 OUT A (out), 2 -IN A (in), 3 +IN A (in)
part B pins: 5 +IN B (in), 6 -IN B (in), 7 OUT B (out)

## AD8502ARJZ-REEL7
designator U?
Double Channel RRIO Operational Amplifier, 7 KHz BW, 4 mV/us SR, Industrial, 8-pin SOT23 (RJ-8), Reel; Generic Part Number: AD8502; Manufacturer: Analog Devices; PartNumber: AD8502ARJZ-REEL7; Amplifiers Per Package: 2; Input Bias Current: 1pA; Input Offset Voltage: 500uV; Iq/Amp: 1uA; Slew Rate: 4mV/us; Small Signal Bandwidth: 7KHz; V Span Max: 5.5V; V Span Min: 1.8V; DatasheetVersion: Rev. A; PackageVersion: 121608-A; PackageReference: RJ-8; PackageDescription: 8-Pin Small Outline Transistor Package, Body 2.9 x 1.6 mm, Pitch 0.65 mm; Supplier 1: Digi-Key; Supplier Part Number 1: AD8502ARJZ-REEL7TR-ND; Supplier 2: Digi-Key; Supplier Part Number 2: AD8502ARJZ-REEL7CT-ND; Supplier 3: Digi-Key; Supplier Part Number 3: AD8502ARJZ-REEL7DKR-ND; Supplier 4: Newark; Supplier Part Number 4: 34M5068; Mounting Technology: Surface Mount; Code_JEDEC: MO-178-BA; ComponentLink1Description: Manufacturer URL; ComponentLink1URL: http://www.analog.com/en/index.html; ComponentLink2Description: Datasheet; ComponentLink2URL: http://www.analog.com/static/imported-files/data_sheets/AD8502_8504.pdf; ComponentLink3Description: Package Specification; ComponentLink3URL: http://www.analog.com/static/imported-files/packages/PKG_PDF/SOT-23(RJ)/RJ_8.pdf
footprint ADI-RJ-8_V (SOT23, 8-Leads, Body 2.9x1.6mm, Pitch 0.65mm)
pins on every part: 4 -V (power), 8 +V (power)
part A pins: 1 OUT A (out), 2 -IN A (in), 3 +IN A (in)
part B pins: 5 +IN B (in), 6 -IN B (in), 7 OUT B (out)

## AD8504ARUZ
designator U?
Quad Channel RRIO Operational Amplifier, 7 KHz BW, 4 mV/us SR, Industrial, 14-pin SOP (RU-14), Tube; Generic Part Number: AD8504; Manufacturer: Analog Devices; PartNumber: AD8504ARUZ; Amplifiers Per Package: 4; Input Bias Current: 1pA; Input Offset Voltage: 500uV; Iq/Amp: 1uA; Slew Rate: 4mV/us; Small Signal Bandwidth: 7KHz; V Span Max: 5.5V; V Span Min: 1.8V; DatasheetVersion: Rev. A; PackageReference: RU-14; PackageDescription: 14-Pin Thin Shrink Small Outline Package, Body 5 x 4.4 mm, Pitch 0.65 mm; Supplier 1: Digi-Key; Supplier Part Number 1: AD8504ARUZ-ND; Supplier 2: Farnell; Supplier Part Number 2: 1498685; Supplier 3: Newark; Supplier Part Number 3: 15P0992; Supplier 4: Newark; Supplier Part Number 4: 34M5070; Mounting Technology: Surface Mount; Code_JEDEC: MO-153AB-1; ComponentLink1Description: Manufacturer URL; ComponentLink1URL: http://www.analog.com/en/index.html; ComponentLink2Description: Datasheet; ComponentLink2URL: http://www.analog.com/static/imported-files/data_sheets/AD8502_8504.pdf; ComponentLink3Description: Package Specification; ComponentLink3URL: http://www.analog.com/static/imported-files/packages/36057385283879153717235186773RU14.pdf
footprint ADI-RU-14_N (SOP, 14-Leads, Body 5x4.4mm, Pitch 0.65mm, IPC Medium Density)
footprint ADI-RU-14_L (SOP, 14-Leads, Body 5x4.4mm, Pitch 0.65mm, IPC High Density)
footprint ADI-RU-14_M (SOP, 14-Leads, Body 5x4.4mm, Pitch 0.65mm, IPC Low Density)
pins on every part: 4 +V (power), 11 -V (power)
part A pins: 1 OUT A (out), 2 -IN A (in), 3 +IN A (in)
part B pins: 5 +IN B (in), 6 -IN B (in), 7 OUT B (out)
part C pins: 8 OUT C (out), 9 -IN C (in), 10 +IN C (in)
part D pins: 12 +IN D (in), 13 -IN D (in), 14 OUT D (out)

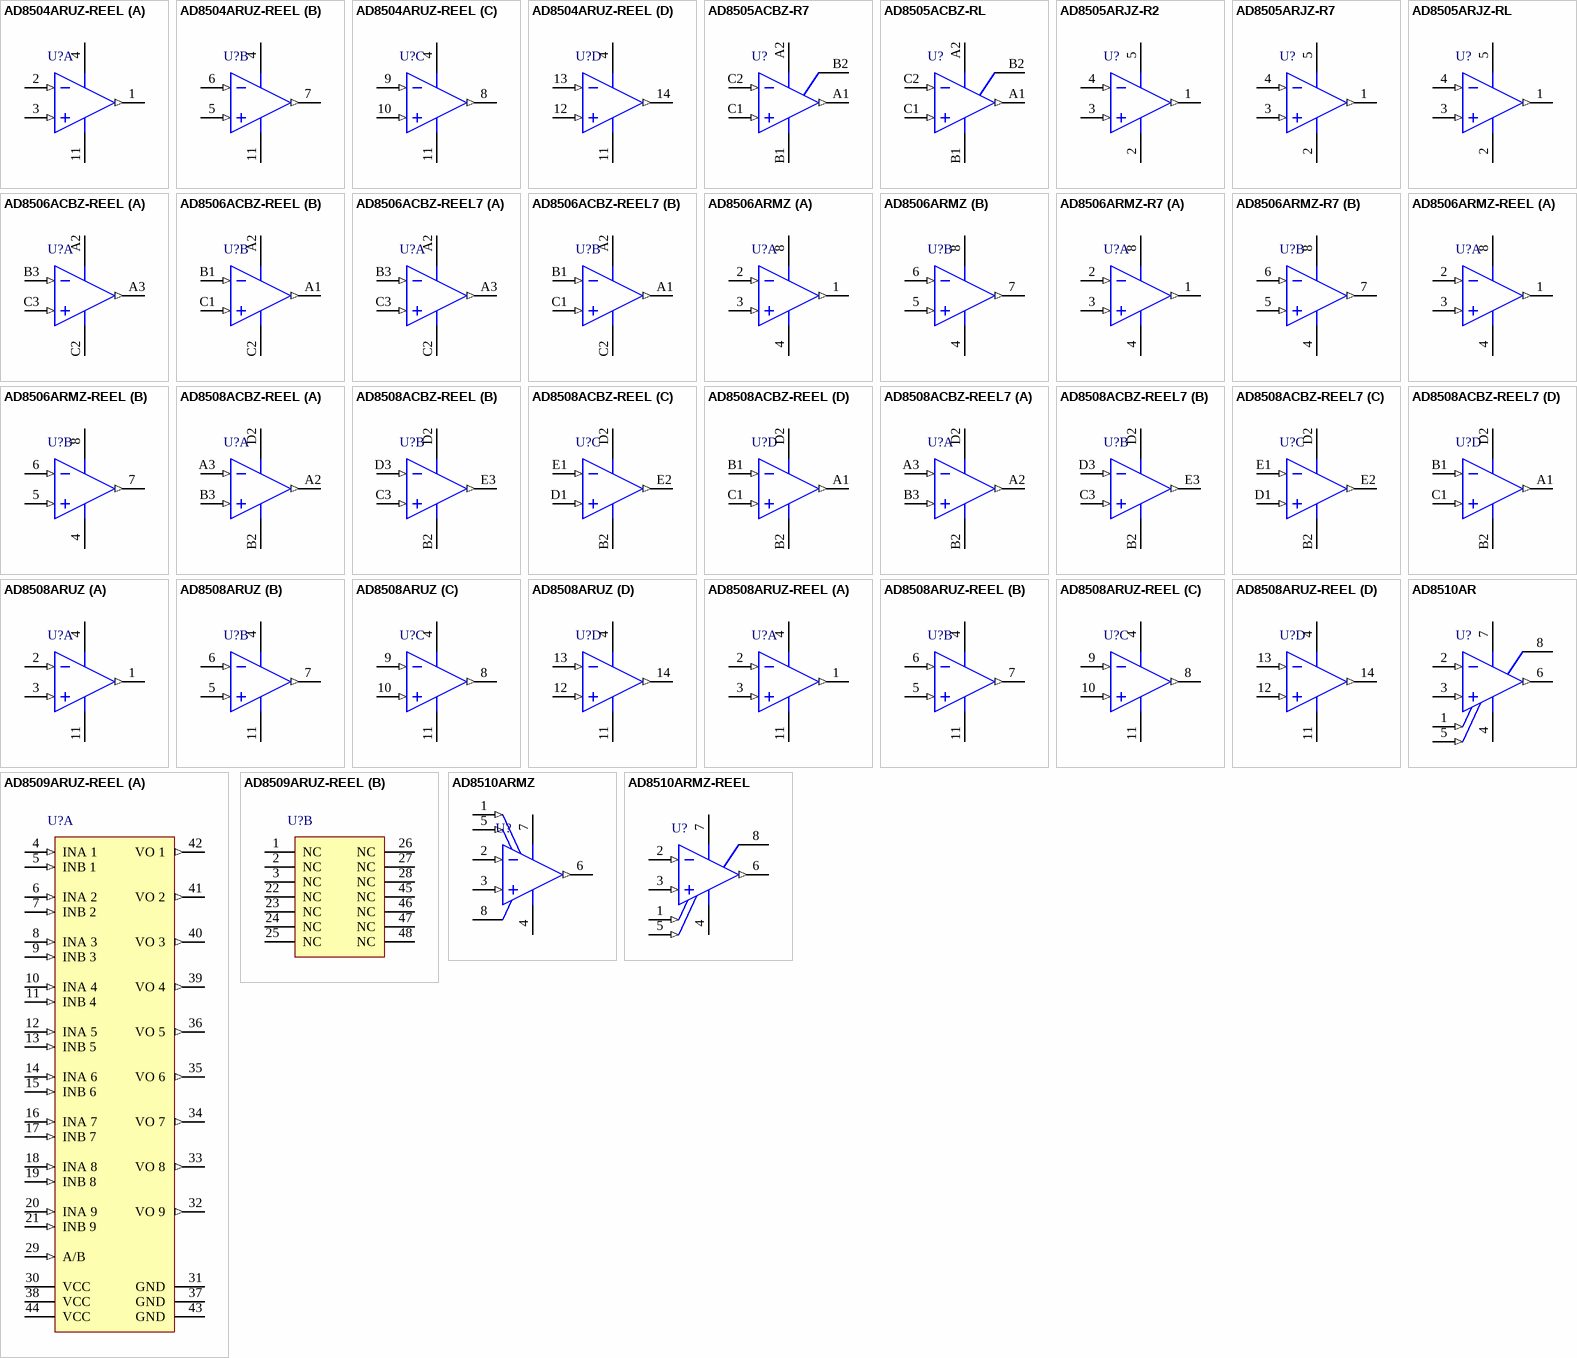
[diagram p37: symbols AD8504ARUZ-REEL to AD8510ARMZ-REEL]

## AD8504ARUZ-REEL
designator U?
Quad Channel RRIO Operational Amplifier, 7 KHz BW, 4 mV/us SR, Industrial, 14-pin SOP (RU-14), Reel; Generic Part Number: AD8504; Manufacturer: Analog Devices; PartNumber: AD8504ARUZ-REEL; Amplifiers Per Package: 4; Input Bias Current: 1pA; Input Offset Voltage: 500uV; Iq/Amp: 1uA; Slew Rate: 4mV/us; Small Signal Bandwidth: 7KHz; V Span Max: 5.5V; V Span Min: 1.8V; DatasheetVersion: Rev. A; PackageReference: RU-14; PackageDescription: 14-Pin Thin Shrink Small Outline Package, Body 5 x 4.4 mm, Pitch 0.65 mm; Supplier 1: Digi-Key; Supplier Part Number 1: AD8504ARUZ-REEL-ND; Supplier 2: Newark; Supplier Part Number 2: 34M5071; Mounting Technology: Surface Mount; Code_JEDEC: MO-153AB-1; ComponentLink1Description: Manufacturer URL; ComponentLink1URL: http://www.analog.com/en/index.html; ComponentLink2Description: Datasheet; ComponentLink2URL: http://www.analog.com/static/imported-files/data_sheets/AD8502_8504.pdf; ComponentLink3Description: Package Specification; ComponentLink3URL: http://www.analog.com/static/imported-files/packages/36057385283879153717235186773RU14.pdf
footprint ADI-RU-14_N (SOP, 14-Leads, Body 5x4.4mm, Pitch 0.65mm, IPC Medium Density)
footprint ADI-RU-14_L (SOP, 14-Leads, Body 5x4.4mm, Pitch 0.65mm, IPC High Density)
footprint ADI-RU-14_M (SOP, 14-Leads, Body 5x4.4mm, Pitch 0.65mm, IPC Low Density)
pins on every part: 4 +V (power), 11 -V (power)
part A pins: 1 OUT A (out), 2 -IN A (in), 3 +IN A (in)
part B pins: 5 +IN B (in), 6 -IN B (in), 7 OUT B (out)
part C pins: 8 OUT C (out), 9 -IN C (in), 10 +IN C (in)
part D pins: 12 +IN D (in), 13 -IN D (in), 14 OUT D (out)

## AD8505ACBZ-R7
designator U?
Single Channel Rail-to-Rail Operational Amplifier, 95 Hz BW, 13 mV/us SR, Industrial, 6-pin BGA (CB-6-7), Reel; Generic Part Number: AD8505; Manufacturer: Analog Devices; PartNumber: AD8505ACBZ-R7; Amplifiers Per Package: 1; Input Bias Current: 1pA; Input Offset Voltage: 500uV; Iq/Amp: 25.5uA; Small Signal Bandwidth: 95Hz; V Span Max: 5V; V Span Min: 1.8V; DatasheetVersion: Rev. E; PackageVersion: 081709-A; PackageReference: CB-6-7; PackageDescription: 6-Ball Wafer Level Chip Scale Package, Body 1.385 x 0.905 mm, Pitch 0.4 mm; Supplier 1: Digi-Key; Supplier Part Number 1: AD8505ACBZ-R7TR-ND; Supplier 2: Digi-Key; Supplier Part Number 2: AD8505ACBZ-R7CT-ND; Supplier 3: Digi-Key; Supplier Part Number 3: AD8505ACBZ-R7DKR-ND; Slew Rate: 13mV/us; Mounting Technology: Surface Mount; ComponentLink1Description: Manufacturer URL; ComponentLink1URL: http://www.analog.com/en/index.html; ComponentLink2Description: Datasheet; ComponentLink2URL: http://www.analog.com/static/imported-files/data_sheets/AD8505_8506_8508.pdf; ComponentLink3Description: Package Specification; ComponentLink3URL: http://www.analog.com/static/imported-files/packages/PKG_PDF/WLCSP(CB)/CB_6_7.pdf
footprint ADI-CB-6-7 (BGA, 6-Balls, Body 1.385x0.905mm, Pitch 0.4mm)
pins: A1 OUT (out), A2 +V (power), B1 -V (power), B2 NC, C1 +IN (in), C2 -IN (in)

## AD8505ACBZ-RL
designator U?
Single Channel Rail-to-Rail Operational Amplifier, 95 Hz BW, 13 mV/us SR, Industrial, 6-pin BGA (CB-6-7), Reel; Generic Part Number: AD8505; Manufacturer: Analog Devices; PartNumber: AD8505ACBZ-RL; Amplifiers Per Package: 1; Input Bias Current: 1pA; Input Offset Voltage: 500uV; Iq/Amp: 25.5uA; Small Signal Bandwidth: 95Hz; V Span Max: 5V; V Span Min: 1.8V; DatasheetVersion: Rev. E; PackageVersion: 081709-A; PackageReference: CB-6-7; PackageDescription: 6-Ball Wafer Level Chip Scale Package, Body 1.385 x 0.905 mm, Pitch 0.4 mm; Supplier 1: Digi-Key; Supplier Part Number 1: AD8505ACBZ-RL-ND; Slew Rate: 13mV/us; Mounting Technology: Surface Mount; ComponentLink1Description: Manufacturer URL; ComponentLink1URL: http://www.analog.com/en/index.html; ComponentLink2Description: Datasheet; ComponentLink2URL: http://www.analog.com/static/imported-files/data_sheets/AD8505_8506_8508.pdf; ComponentLink3Description: Package Specification; ComponentLink3URL: http://www.analog.com/static/imported-files/packages/PKG_PDF/WLCSP(CB)/CB_6_7.pdf
footprint ADI-CB-6-7 (BGA, 6-Balls, Body 1.385x0.905mm, Pitch 0.4mm)
pins: A1 OUT (out), A2 +V (power), B1 -V (power), B2 NC, C1 +IN (in), C2 -IN (in)

## AD8505ARJZ-R2
designator U?
Single Channel Rail-to-Rail Operational Amplifier, 95 Hz BW, 13 mV/us SR, Industrial, 5-pin SOT23 (RJ-5), Reel; Generic Part Number: AD8505; Manufacturer: Analog Devices; PartNumber: AD8505ARJZ-R2; Amplifiers Per Package: 1; Input Bias Current: 1pA; Input Offset Voltage: 500uV; Iq/Amp: 25.5uA; Small Signal Bandwidth: 95Hz; V Span Max: 5V; V Span Min: 1.8V; DatasheetVersion: Rev. E; PackageVersion: 121608-A; PackageReference: RJ-5; PackageDescription: 5-Pin Small Outline Transistor Package, Body 2.9 x 1.6 mm, Pitch 0.95 mm; Supplier 1: Digi-Key; Supplier Part Number 1: AD8505ARJZ-R2TR-ND; Supplier 2: Digi-Key; Supplier Part Number 2: AD8505ARJZ-R2CT-ND; Supplier 3: Digi-Key; Supplier Part Number 3: AD8505ARJZ-R2DKR-ND; Slew Rate: 13mV/us; Mounting Technology: Surface Mount; Code_JEDEC: MO-178-AA; ComponentLink1Description: Manufacturer URL; ComponentLink1URL: http://www.analog.com/en/index.html; ComponentLink2Description: Datasheet; ComponentLink2URL: http://www.analog.com/static/imported-files/data_sheets/AD8505_8506_8508.pdf; ComponentLink3Description: Package Specification; ComponentLink3URL: http://www.analog.com/static/imported-files/packages/PKG_PDF/SOT-23(RJ)/RJ_5.pdf
footprint ADI-RJ-5_N (SOT-23, 5-Leads, Body 2.9x1.6mm, Pitch 0.95mm, IPC Medium Density)
footprint ADI-RJ-5_L (SOT-23, 5-Leads, Body 2.9x1.6mm, Pitch 0.95mm, IPC High Density)
footprint ADI-RJ-5_M (SOT-23, 5-Leads, Body 2.9x1.6mm, Pitch 0.95mm, IPC Low Density)
pins: 1 OUT (out), 2 -V (power), 3 +IN (in), 4 -IN (in), 5 +V (power)

## AD8505ARJZ-R7
designator U?
Single Channel Rail-to-Rail Operational Amplifier, 95 Hz BW, 13 mV/us SR, Industrial, 5-pin SOT23 (RJ-5), Reel; Generic Part Number: AD8505; Manufacturer: Analog Devices; PartNumber: AD8505ARJZ-R7; Amplifiers Per Package: 1; Input Bias Current: 1pA; Input Offset Voltage: 500uV; Iq/Amp: 25.5uA; Small Signal Bandwidth: 95Hz; V Span Max: 5V; V Span Min: 1.8V; DatasheetVersion: Rev. E; PackageVersion: 121608-A; PackageReference: RJ-5; PackageDescription: 5-Pin Small Outline Transistor Package, Body 2.9 x 1.6 mm, Pitch 0.95 mm; Supplier 1: Digi-Key; Supplier Part Number 1: AD8505ARJZ-R7-ND; Supplier 2: Farnell; Supplier Part Number 2: 1827370; Supplier 3: Farnell; Supplier Part Number 3: 1827370RL; Supplier 4: Newark; Supplier Part Number 4: 85R5213; Supplier 5: Newark; Supplier Part Number 5: 52R8171; Slew Rate: 13mV/us; Mounting Technology: Surface Mount; Code_JEDEC: MO-178-AA; ComponentLink1Description: Manufacturer URL; ComponentLink1URL: http://www.analog.com/en/index.html; ComponentLink2Description: Datasheet; ComponentLink2URL: http://www.analog.com/static/imported-files/data_sheets/AD8505_8506_8508.pdf; ComponentLink3Description: Package Specification; ComponentLink3URL: http://www.analog.com/static/imported-files/packages/PKG_PDF/SOT-23(RJ)/RJ_5.pdf
footprint ADI-RJ-5_N (SOT-23, 5-Leads, Body 2.9x1.6mm, Pitch 0.95mm, IPC Medium Density)
footprint ADI-RJ-5_L (SOT-23, 5-Leads, Body 2.9x1.6mm, Pitch 0.95mm, IPC High Density)
footprint ADI-RJ-5_M (SOT-23, 5-Leads, Body 2.9x1.6mm, Pitch 0.95mm, IPC Low Density)
pins: 1 OUT (out), 2 -V (power), 3 +IN (in), 4 -IN (in), 5 +V (power)

## AD8505ARJZ-RL
designator U?
Single Channel Rail-to-Rail Operational Amplifier, 95 Hz BW, 13 mV/us SR, Industrial, 5-pin SOT23 (RJ-5), Reel; Generic Part Number: AD8505; Manufacturer: Analog Devices; PartNumber: AD8505ARJZ-RL; Amplifiers Per Package: 1; Input Bias Current: 1pA; Input Offset Voltage: 500uV; Iq/Amp: 25.5uA; Small Signal Bandwidth: 95Hz; V Span Max: 5V; V Span Min: 1.8V; DatasheetVersion: Rev. E; PackageVersion: 121608-A; PackageReference: RJ-5; PackageDescription: 5-Pin Small Outline Transistor Package, Body 2.9 x 1.6 mm, Pitch 0.95 mm; Supplier 1: Digi-Key; Supplier Part Number 1: AD8505ARJZ-RL-ND; Slew Rate: 13mV/us; Mounting Technology: Surface Mount; Code_JEDEC: MO-178-AA; ComponentLink1Description: Manufacturer URL; ComponentLink1URL: http://www.analog.com/en/index.html; ComponentLink2Description: Datasheet; ComponentLink2URL: http://www.analog.com/static/imported-files/data_sheets/AD8505_8506_8508.pdf; ComponentLink3Description: Package Specification; ComponentLink3URL: http://www.analog.com/static/imported-files/packages/PKG_PDF/SOT-23(RJ)/RJ_5.pdf
footprint ADI-RJ-5_N (SOT-23, 5-Leads, Body 2.9x1.6mm, Pitch 0.95mm, IPC Medium Density)
footprint ADI-RJ-5_L (SOT-23, 5-Leads, Body 2.9x1.6mm, Pitch 0.95mm, IPC High Density)
footprint ADI-RJ-5_M (SOT-23, 5-Leads, Body 2.9x1.6mm, Pitch 0.95mm, IPC Low Density)
pins: 1 OUT (out), 2 -V (power), 3 +IN (in), 4 -IN (in), 5 +V (power)

## AD8506ACBZ-REEL
designator U?
Double Channel Rail-to-Rail Operational Amplifier, 150 KHz BW, 13 mV/us SR, Industrial, 8-pin BGA (CB-8-2), Reel; Generic Part Number: AD8506; Manufacturer: Analog Devices; PartNumber: AD8506ACBZ-REEL; Amplifiers Per Package: 2; Input Bias Current: 1pA; Input Offset Voltage: 2.5mV; Iq/Amp: 20uA; Small Signal Bandwidth: 150KHz; V Span Max: 5.5V; V Span Min: 1.8V; DatasheetVersion: Rev. E; PackageVersion: 011008-B; PackageReference: CB-8-2; PackageDescription: 8-Ball Wafer Level Chip Scale Package, Body 1.42 x 1.42 mm, Pitch 0.5 mm; Supplier 1: Digi-Key; Supplier Part Number 1: AD8506ACBZ-REEL-ND; Slew Rate: 13mV/us; Mounting Technology: Surface Mount; ComponentLink1Description: Manufacturer URL; ComponentLink1URL: http://www.analog.com/en/index.html; ComponentLink2Description: Datasheet; ComponentLink2URL: http://www.analog.com/static/imported-files/data_sheets/AD8505_8506_8508.pdf; ComponentLink3Description: Package Specification; ComponentLink3URL: http://www.analog.com/static/imported-files/packages/PKG_PDF/WLCSP(CB)/CB_8_2.pdf
footprint ADI-CB-8-2 (BGA, 8-Balls, Body 1.42x1.42mm, Pitch 0.5mm)
pins on every part: A2 +V (power), C2 -V (power)
part A pins: A3 OUT A (out), B3 -IN A (in), C3 +IN A (in)
part B pins: A1 OUT B (out), B1 -IN B (in), C1 +IN B (in)

## AD8506ACBZ-REEL7
designator U?
Double Channel Rail-to-Rail Operational Amplifier, 150 KHz BW, 13 mV/us SR, Industrial, 8-pin BGA (CB-8-2), Reel; Generic Part Number: AD8506; Manufacturer: Analog Devices; PartNumber: AD8506ACBZ-REEL7; Amplifiers Per Package: 2; Input Bias Current: 1pA; Input Offset Voltage: 2.5mV; Iq/Amp: 20uA; Small Signal Bandwidth: 150KHz; V Span Max: 5.5V; V Span Min: 1.8V; DatasheetVersion: Rev. E; PackageVersion: 011008-B; PackageReference: CB-8-2; PackageDescription: 8-Ball Wafer Level Chip Scale Package, Body 1.42 x 1.42 mm, Pitch 0.5 mm; Supplier 1: Digi-Key; Supplier Part Number 1: AD8506ACBZ-REEL7TR-ND; Supplier 2: Digi-Key; Supplier Part Number 2: AD8506ACBZ-REEL7CT-ND; Supplier 3: Digi-Key; Supplier Part Number 3: AD8506ACBZ-REEL7DKR-ND; Supplier 4: Newark; Supplier Part Number 4: 19P8299; Slew Rate: 13mV/us; Mounting Technology: Surface Mount; ComponentLink1Description: Manufacturer URL; ComponentLink1URL: http://www.analog.com/en/index.html; ComponentLink2Description: Datasheet; ComponentLink2URL: http://www.analog.com/static/imported-files/data_sheets/AD8505_8506_8508.pdf; ComponentLink3Description: Package Specification; ComponentLink3URL: http://www.analog.com/static/imported-files/packages/PKG_PDF/WLCSP(CB)/CB_8_2.pdf
footprint ADI-CB-8-2 (BGA, 8-Balls, Body 1.42x1.42mm, Pitch 0.5mm)
pins on every part: A2 +V (power), C2 -V (power)
part A pins: A3 OUT A (out), B3 -IN A (in), C3 +IN A (in)
part B pins: A1 OUT B (out), B1 -IN B (in), C1 +IN B (in)

## AD8506ARMZ
designator U?
Double Channel Rail-to-Rail Operational Amplifier, 150 KHz BW, 13 mV/us SR, Industrial, 8-pin SOP (RM-8), Tube; Generic Part Number: AD8506; Manufacturer: Analog Devices; PartNumber: AD8506ARMZ; Amplifiers Per Package: 2; Input Bias Current: 1pA; Input Offset Voltage: 2.5mV; Iq/Amp: 20uA; Small Signal Bandwidth: 150KHz; V Span Max: 5.5V; V Span Min: 1.8V; DatasheetVersion: Rev. E; PackageReference: RM-8; PackageDescription: 8-Pin Mini Small Outline Package, Body 3 x 3 mm, Pitch 0.65 mm; Supplier 1: Digi-Key; Supplier Part Number 1: AD8506ARMZ-ND; Slew Rate: 13mV/us; Mounting Technology: Surface Mount; Code_JEDEC: MO-187-AA; ComponentLink1Description: Manufacturer URL; ComponentLink1URL: http://www.analog.com/en/index.html; ComponentLink2Description: Datasheet; ComponentLink2URL: http://www.analog.com/static/imported-files/data_sheets/AD8505_8506_8508.pdf; ComponentLink3Description: Package Specification; ComponentLink3URL: http://www.analog.com/static/imported-files/packages/PKG_PDF/MSOP%28RM%29/RM_8.pdf
footprint ADI-RM-8_N (SOP, 8-Leads, Body 3x3mm, Pitch 0.65mm, IPC Medium Density)
footprint ADI-RM-8_L (SOP, 8-Leads, Body 3x3mm, Pitch 0.65mm, IPC High Density)
footprint ADI-RM-8_M (SOP, 8-Leads, Body 3x3mm, Pitch 0.65mm, IPC Low Density)
pins on every part: 4 -V (power), 8 +V (power)
part A pins: 1 OUT A (out), 2 -IN A (in), 3 +IN A (in)
part B pins: 5 +IN B (in), 6 -IN B (in), 7 OUT B (out)

## AD8506ARMZ-R7
designator U?
Double Channel Rail-to-Rail Operational Amplifier, 150 KHz BW, 13 mV/us SR, Industrial, 8-pin SOP (RM-8), Reel; Generic Part Number: AD8506; Manufacturer: Analog Devices; PartNumber: AD8506ARMZ-R7; Amplifiers Per Package: 2; Input Bias Current: 1pA; Input Offset Voltage: 2.5mV; Iq/Amp: 20uA; Small Signal Bandwidth: 150KHz; V Span Max: 5.5V; V Span Min: 1.8V; DatasheetVersion: Rev. E; PackageReference: RM-8; PackageDescription: 8-Pin Mini Small Outline Package, Body 3 x 3 mm, Pitch 0.65 mm; Supplier 1: Digi-Key; Supplier Part Number 1: AD8506ARMZ-R7-ND; Slew Rate: 13mV/us; Mounting Technology: Surface Mount; Code_JEDEC: MO-187-AA; ComponentLink1Description: Manufacturer URL; ComponentLink1URL: http://www.analog.com/en/index.html; ComponentLink2Description: Datasheet; ComponentLink2URL: http://www.analog.com/static/imported-files/data_sheets/AD8505_8506_8508.pdf; ComponentLink3Description: Package Specification; ComponentLink3URL: http://www.analog.com/static/imported-files/packages/PKG_PDF/MSOP%28RM%29/RM_8.pdf
footprint ADI-RM-8_N (SOP, 8-Leads, Body 3x3mm, Pitch 0.65mm, IPC Medium Density)
footprint ADI-RM-8_L (SOP, 8-Leads, Body 3x3mm, Pitch 0.65mm, IPC High Density)
footprint ADI-RM-8_M (SOP, 8-Leads, Body 3x3mm, Pitch 0.65mm, IPC Low Density)
pins on every part: 4 -V (power), 8 +V (power)
part A pins: 1 OUT A (out), 2 -IN A (in), 3 +IN A (in)
part B pins: 5 +IN B (in), 6 -IN B (in), 7 OUT B (out)